# EAGLE library part S-8209AXX (library U-ABLIC-s8209A-BattProtection)
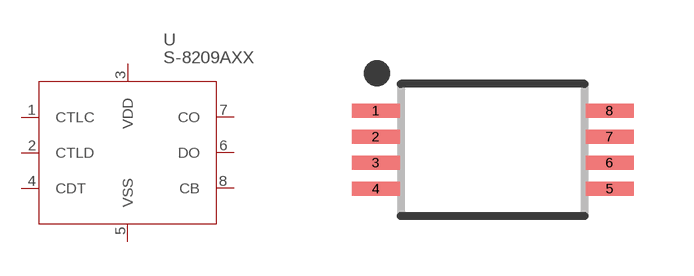
[diagram p0: symbol with the pads of TSSOP8; footprint TSSOP8]

Designator prefix U

## S-8209AXXT  [TSSOP8]
1  CTLC  pas
2  CTLD  in
3  VDD  pwr
4  CDT  pas
5  VSS  pwr
6  DO  oc
7  CO  oc
8  CB  out

## Footprint TSSOP8 (pad centres in mm)
Plastic Small Outline
smd 1.2 x 0.35: 1 -2.925,0.975; 2 -2.925,0.325; 3 -2.925,-0.325; 4 -2.925,-0.975; 5 2.925,-0.975; 6 2.925,-0.325; 7 2.925,0.325; 8 2.925,0.975